# EAGLE library part 50224-005 (library con-aces-50224-series)
ACES CONNECTORS 50224 SERIES Aces Connectors 50224 <https://www.acesconn.com/tw/series/50224-xxxxx-xxx/3165>
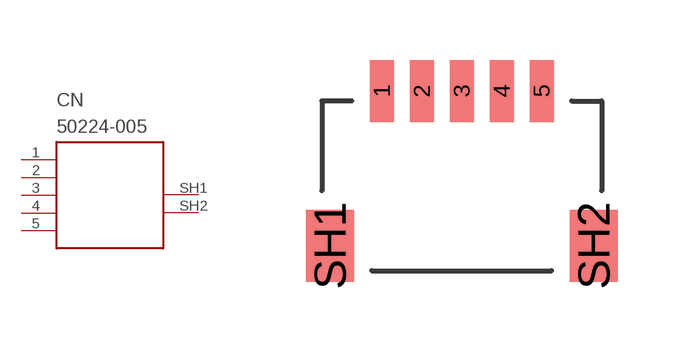
[diagram p1: symbol with the pads of 50224-005; footprint 50224-005]

Designator prefix CN

## 50224-005  [50224-005]
1  1
2  2
3  3
4  4
5  5
SH1  SH1
SH2  SH2

## Footprint 50224-005 (pad centres in mm)
smd 0.6 x 1.55: 1 -2,0; 2 -1,0; 3 0,0; 4 1,0; 5 2,0
smd 1.2 x 1.8: SH1 -3.3,-3.875; SH2 3.3,-3.875